# Altium footprint library 浓度探头.PcbLib: 9 footprints
Each footprint in its own frame and in the unit in brackets; x right, y up, seen from the top. Pads: shape width x height; smd on the part's side, far side on the other; paste and mask are expansions set on the pad; w line width, h text height; cw(c..) or ccw(c..) is an arc to the next point about the centre after c.
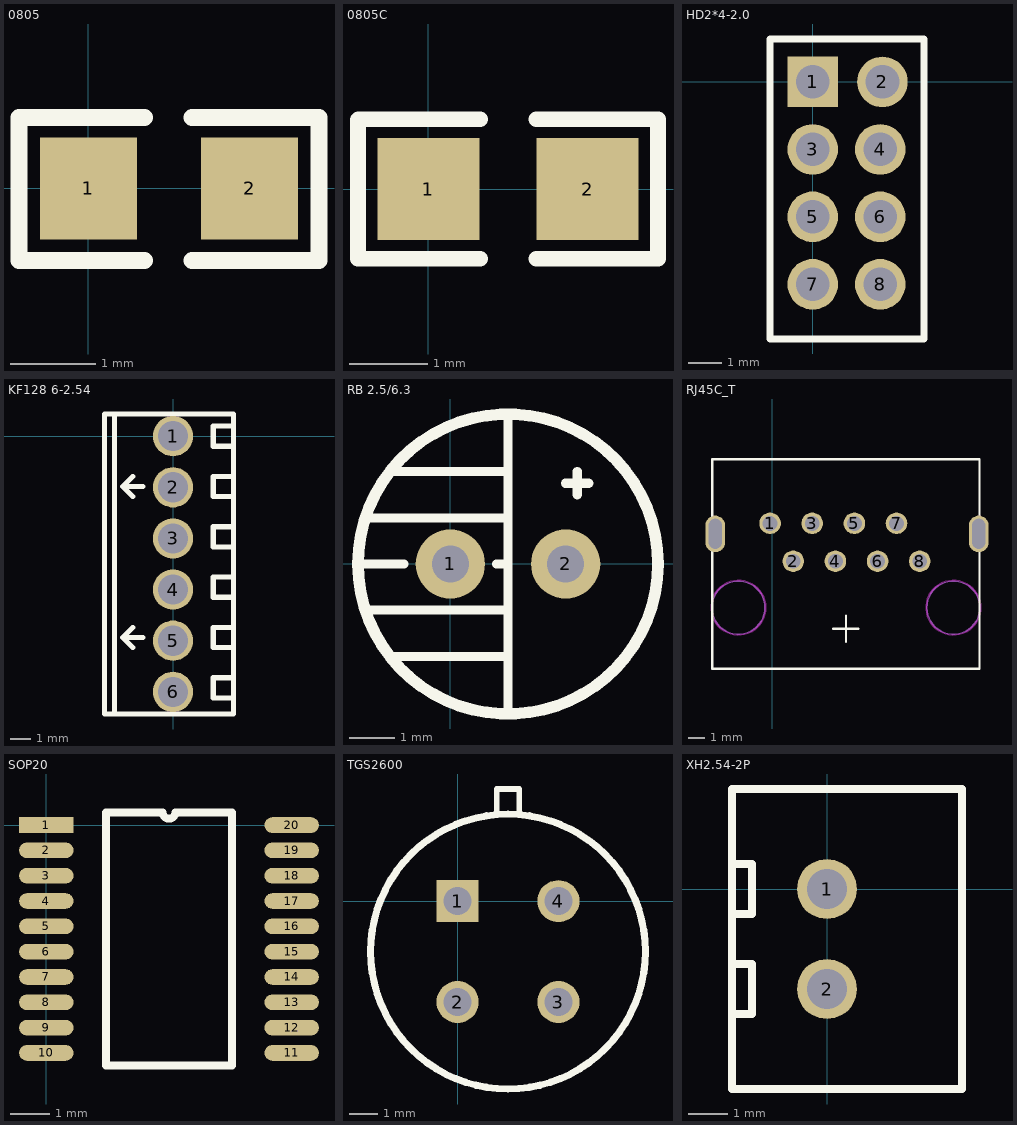
[diagram p0: the footprints below, top view; thin cyan lines are the x and y axes]

## 0805 [mm]
pads (2):
  rect 1.14x1.2 smd: 1(0,0) 2(1.9,0)
Top Overlay:
  lines w0.2: 0.66,-0.85 -0.82,-0.85 -0.82,0 -0.82,0.838 0.66,0.838 ; 1.219,-0.85 2.72,-0.85 2.72,0.836 2.718,0.838 1.219,0.838

## 0805C [mm] "0805无极性电容"
pads (2):
  rect 1.3x1.3 smd: 1(0,0) 2(2.027,0)
Top Overlay:
  lines w0.2: 0.66,-0.889 -0.896,-0.889 -0.896,0 -0.896,0.882 -0.889,0.889 0.66,0.889 ; 1.372,-0.889 2.923,-0.889 2.923,0.887 2.921,0.889 1.372,0.889

## HD2*4-2.0 [mm]
pads (8):
  rect 1.5x1.5 hole 1: 1(0,0)
  round 1.5 hole 1: 2(2.064,0) 3(0,-2) 4(2,-2) 5(0,-4) 6(2,-4) 7(0,-6) 8(2,-6)
Top Overlay:
  lines w0.2: -1.27,-7.62 3.3,-7.62 3.3,1.27 -1.27,1.27 -1.27,-7.62

## KF128 6-2.54 [mm]
pads (6):
  round 2 hole 1.5: 1(0,0) 2(0,-2.54) 3(0,-5.08) 4(0,-7.62) 5(0,-10.16) 6(0,-12.7)
Top Overlay:
  lines w0.254: -3.4,-0.4 -3.4,1.1 0.8,1.1 ; -3.4,0 -3.4,-13.8 0.1,-13.8 ; -2.9,-13.8 -2.9,1.1 ; -2,-10.5 -2.5,-10 ; -2,-3 -2.5,-2.5 ; -1.5,-10 -2.5,-10 ; -1.5,-2.5 -2.4,-2.5 -2.5,-2.5 ; 0,-13.8 3,-13.8 3,0 ; 0,1.1 3,1.1 3,-0.1 ; 2.9,0.5 2.1,0.5 2,0.5 2,-0.5 3,-0.5 ; 3,-13 2,-13 2,-12 3,-12 ; 3,-10.5 2,-10.5 2,-9.5 3,-9.5 ; 3,-8 2,-8 2,-7 3,-7 ; 3,-5.5 2,-5.5 2,-4.5 3,-4.5 ; 3,-3 2,-3 2,-2 3,-2 ; -2.5,-10 -2.5,-10 ; -2.5,-10 -2,-9.5 ; -2.5,-10 -2,-9.5 ; -2.5,-2.5 -2,-2 -2.5,-2.5 ; -2,-9.5 -2,-9.5

## RB 2.5/6.3 [mil]
pads (2):
  round 60 hole 32: 1(0,0) 2(100,0)
Top Overlay:
  circle w10: c50,0 r130
  lines w7.87: -80,0 -40,0 ; -70,-40 50,-40 ; -70,40 50,40 ; -50,-80 50,-80 ; -50,80 50,80 ; 40,0 50,0 ; 50,-130 50,130 ; 100,70 120,70 ; 110,60 110,80

## RJ45C_T [mm]
pads (10):
  round 1.3 hole 0.9: 1(-0.127,15.875) 2(1.27,13.589) 3(2.413,15.875) 4(3.81,13.589) 5(4.953,15.875) 6(6.35,13.589) 7(7.493,15.875) 8(8.89,13.589)
  oval 1.2x2.2 hole 0.8 slot 1.8 at 90 deg: ""(-3.429,15.24) ""(12.446,15.24)
Top Overlay:
  lines w0.127: 3.658,9.525 5.207,9.525 ; 4.44,8.738 4.44,10.312 ; -3.608,7.112 12.492,7.112 12.492,19.736 -3.608,19.736 -3.608,7.112
Keep-Out Layer:
  circle w0.076: c-2.037,10.795 r1.65
  circle w0.076: c10.917,10.795 r1.65
Mechanical 1:
  circle w0.076: c-2.037,10.795 r1.6
  circle w0.076: c10.917,10.795 r1.6

## SOP20 [mm]
pads (20):
  rect 1.4x0.4 smd: 1(0,0)
  oval 1.4x0.4 smd: 2(0,-0.65) 3(0,-1.3) 4(0,-1.95) 5(0,-2.6) 6(0,-3.25) 7(0,-3.9) 8(0,-4.55) 9(0,-5.2) 10(0,-5.85) 11(6.3,-5.85) 12(6.3,-5.2) 13(6.3,-4.55) 14(6.3,-3.9) 15(6.3,-3.25) 16(6.3,-2.6) 17(6.3,-1.95) 18(6.3,-1.3) 19(6.3,-0.65) 20(6.3,0)
Top Overlay:
  lines w0.2: 1.535,-6.175 1.535,0.325 2.987,0.325 ccw(c3.15,0.325) 3.312,0.325 4.765,0.325 4.765,-6.175 1.535,-6.175

## TGS2600 [mm]
pads (4):
  rect 1.5x1.5 hole 1: 1(0,0)
  round 1.5 hole 1: 2(0,-3.6) 3(3.6,-3.6) 4(3.6,0)
Top Overlay:
  circle w0.254: c1.8,-1.8 r4.904
  lines w0.2: 1.4,3.1 1.4,4 2.2,4 2.2,3.1

## XH2.54-2P [mil]
pads (2):
  round 60 hole 40: 1(0,0) 2(0,-100)
Top Overlay:
  lines w7.87: -95,-75 -75,-75 -75,-125 -90,-125 ; -95,25 -75,25 -75,-25 -90,-25 ; -95,-200 0,-200 135,-200 135,100 0,100 -95,100 -95,-200